# Altium integrated library SN74V293.IntLib: 1 symbol
Pins are listed as number, name and electrical type; pins without a type are passive.

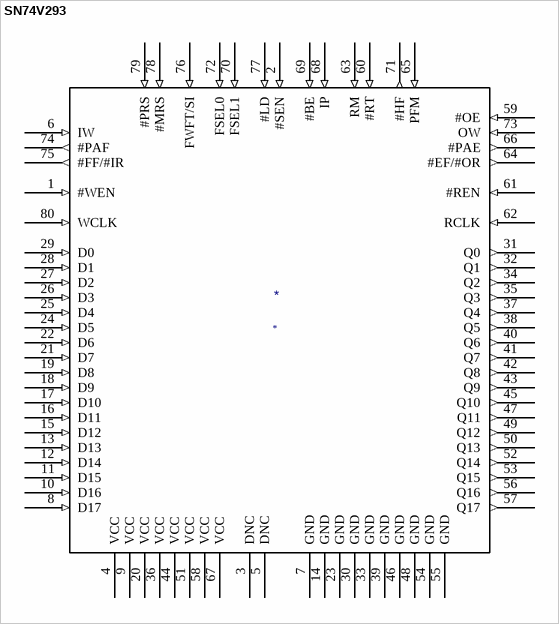
[diagram p0: symbol SN74V293]

## SN74V293
designator *
footprint LQFP-80
pins: 1 #WEN (in), 2 #SEN (in), 3 DNC, 4 VCC (power), 5 DNC, 6 IW (in), 7 GND (power), 8 D17 (in), 9 VCC (power), 10 D16 (in), 11 D15 (in), 12 D14 (in), 13 D13 (in), 14 GND (power), 15 D12 (in), 16 D11 (in), 17 D10 (in), 18 D9 (in), 19 D8 (in), 20 VCC (power), 21 D7 (in), 22 D6 (in), 23 GND (power), 24 D5 (in), 25 D4 (in), 26 D3 (in), 27 D2 (in), 28 D1 (in), 29 D0 (in), 30 GND (power), 31 Q0 (out), 32 Q1 (out), 33 GND (power), 34 Q2 (out), 35 Q3 (out), 36 VCC (power), 37 Q4 (out), 38 Q5 (out), 39 GND (power), 40 Q6 (out), 41 Q7 (out), 42 Q8 (out), 43 Q9 (out), 44 VCC (power), 45 Q10 (out), 46 GND (power), 47 Q11 (out), 48 GND (power), 49 Q12 (out), 50 Q13 (out), 51 VCC (power), 52 Q14 (out), 53 Q15 (out), 54 GND (power), 55 GND (power), 56 Q16 (out), 57 Q17 (out), 58 VCC (power), 59 #OE (in), 60 #RT (in), 61 #REN (in), 62 RCLK (in), 63 RM (in), 64 #EF/#OR (out), 65 PFM (in), 66 #PAE (out), 67 VCC (power), 68 IP (in), 69 #BE (in), 70 FSEL1 (in), 71 #HF (out), 72 FSEL0 (in), 73 OW (in), 74 #PAF (out), 75 #FF/#IR (out), 76 FWFT/SI (in), 77 #LD (in), 78 #MRS (in), 79 #PRS (in), 80 WCLK (in)